# Altium schematic symbol library 2019-12-15_18-28-44.SchLib: 2 symbols
Pins are listed as number, name and electrical type; pins without a type are passive.

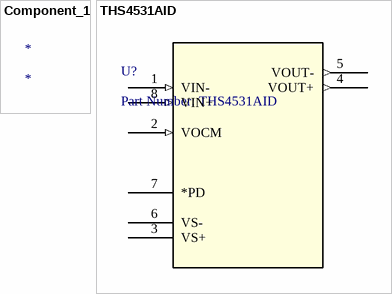
[diagram p0: symbols Component_1 to THS4531AID]

## Component_1
designator *

## THS4531AID
designator U?, comment Part Number: THS4531AID
No Description Available; Built_By: EMA_UL_Team; Vendor: Texas Instruments; Manufacturer_Part_Number: THS4531AID; Copyright: Copyright (C) 2018 Accelerated Designs. All rights reserved; RefDes: RefDes; Type: DEV; Value: Value
footprint D8
pins: 1 VIN- (in), 2 VOCM (in), 3 VS+ (power), 4 VOUT+ (out), 5 VOUT- (out), 6 VS- (power), 7 *PD (power), 8 VIN+ (in)